# EAGLE library part L-4ARR (library rcl)
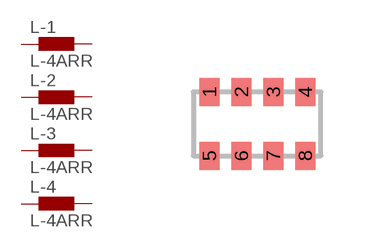
[diagram p0: symbol with the pads of L0603X4; footprint L0603X4]

Designator prefix L; gates -1=L-EU -2=L-EU -3=L-EU -4=L-EU

## L-4ARR1206  [L0603X4]
1  -1:P$1  pas
2  -2:P$1  pas
3  -3:P$1  pas
4  -4:P$1  pas
5  -1:P$2  pas
6  -2:P$2  pas
7  -3:P$2  pas
8  -4:P$2  pas

## Footprint L0603X4 (pad centres in mm)
smd 0.5 x 0.7: 1 0,1.35; 2 0.8,1.35; 3 1.6,1.35; 4 2.4,1.35; 5 0,-0.25; 6 0.8,-0.25; 7 1.6,-0.25; 8 2.4,-0.25